# Altium footprint library A1254WR-S.PCBLIB: 3 footprints
Each footprint in its own frame and in the unit in brackets; x right, y up, seen from the top. Pads: shape width x height; smd on the part's side, far side on the other; paste and mask are expansions set on the pad; w line width, h text height; cw(c..) or ccw(c..) is an arc to the next point about the centre after c.
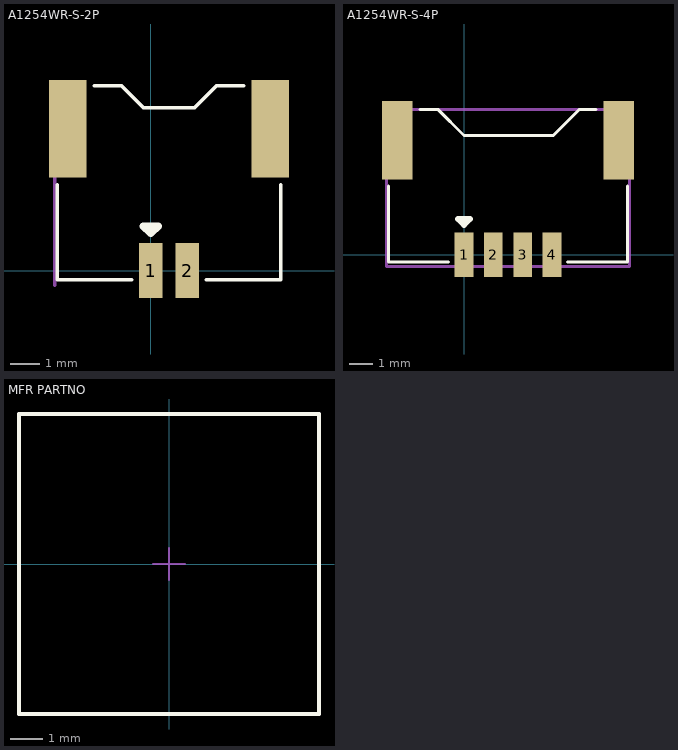
[diagram p0: the footprints below, top view; thin cyan lines are the x and y axes]

## A1254WR-S-2P [mm] "1.85mm"
pads (4):
  rect 0.8x1.9 smd mask+0.05: 1(0,0) 2(1.25,0)
  rect 1.3x3.35 smd mask+0.05: ""(-2.85,4.875) ""(4.1,4.875)
Top Overlay:
  lines w0.127: -3.215,2.936 -3.215,-0.313 -0.664,-0.313 ; -1.937,6.35 -1.016,6.35 -0.254,5.588 1.504,5.588 2.266,6.35 3.187,6.35 ; 1.914,-0.313 4.465,-0.313 4.465,2.936
  lines w0.254: -0.007,1.277 -0.254,1.524 0.254,1.524 0.007,1.277
Top 元件外形:
  lines w0.127: -3.302,-0.5 -3.302,6.2

## A1254WR-S-4P [mm] "1.85mm"
pads (6):
  rect 0.8x1.9 smd mask+0.05: 1(0,0) 2(1.25,0) 3(2.5,0) 4(3.75,0)
  rect 1.3x3.35 smd mask+0.05: ""(-2.85,4.875) ""(6.6,4.875)
Top Overlay:
  lines w0.127: -3.215,2.936 -3.215,-0.313 -0.664,-0.313 ; -1.873,6.2 -1.12,6.2 0,5.08 3.81,5.08 4.93,6.2 5.623,6.2 ; 4.414,-0.313 6.965,-0.313 6.965,2.936
  lines w0.254: -0.254,1.524 0,1.27 0.254,1.524 -0.254,1.524
Top 元件外形:
  lines w0.127: -3.302,-0.5 -3.302,6.2 7.062,6.2 7.062,-0.5 -3.302,-0.5
3D body "x9827wrs-04-9tsn.stp": height 1.85, standoff -0.05, extent -3.362,-0.5 7.062,6.2

## MFR PARTNO [mm] "记得设置高度"
Top Overlay:
  lines w0.127: -4.7,-4.7 -4.7,4.7 4.7,4.7 4.7,-4.7 -4.7,-4.7
Top 元件外形:
  lines w0.127: -4.7,-4.7 4.7,-4.7 4.7,4.7 -4.7,4.7 -4.7,-4.7
Top 中心点:
  lines w0.051: -0.5,0 0.5,0 ; 0,-0.5 0,0.5